# Altium footprint library Socket.PcbLib: 25 footprints (part 1 of 2)
Each footprint in its own frame and in the unit in brackets; x right, y up, seen from the top. Pads: shape width x height; smd on the part's side, far side on the other; paste and mask are expansions set on the pad; w line width, h text height; cw(c..) or ccw(c..) is an arc to the next point about the centre after c.
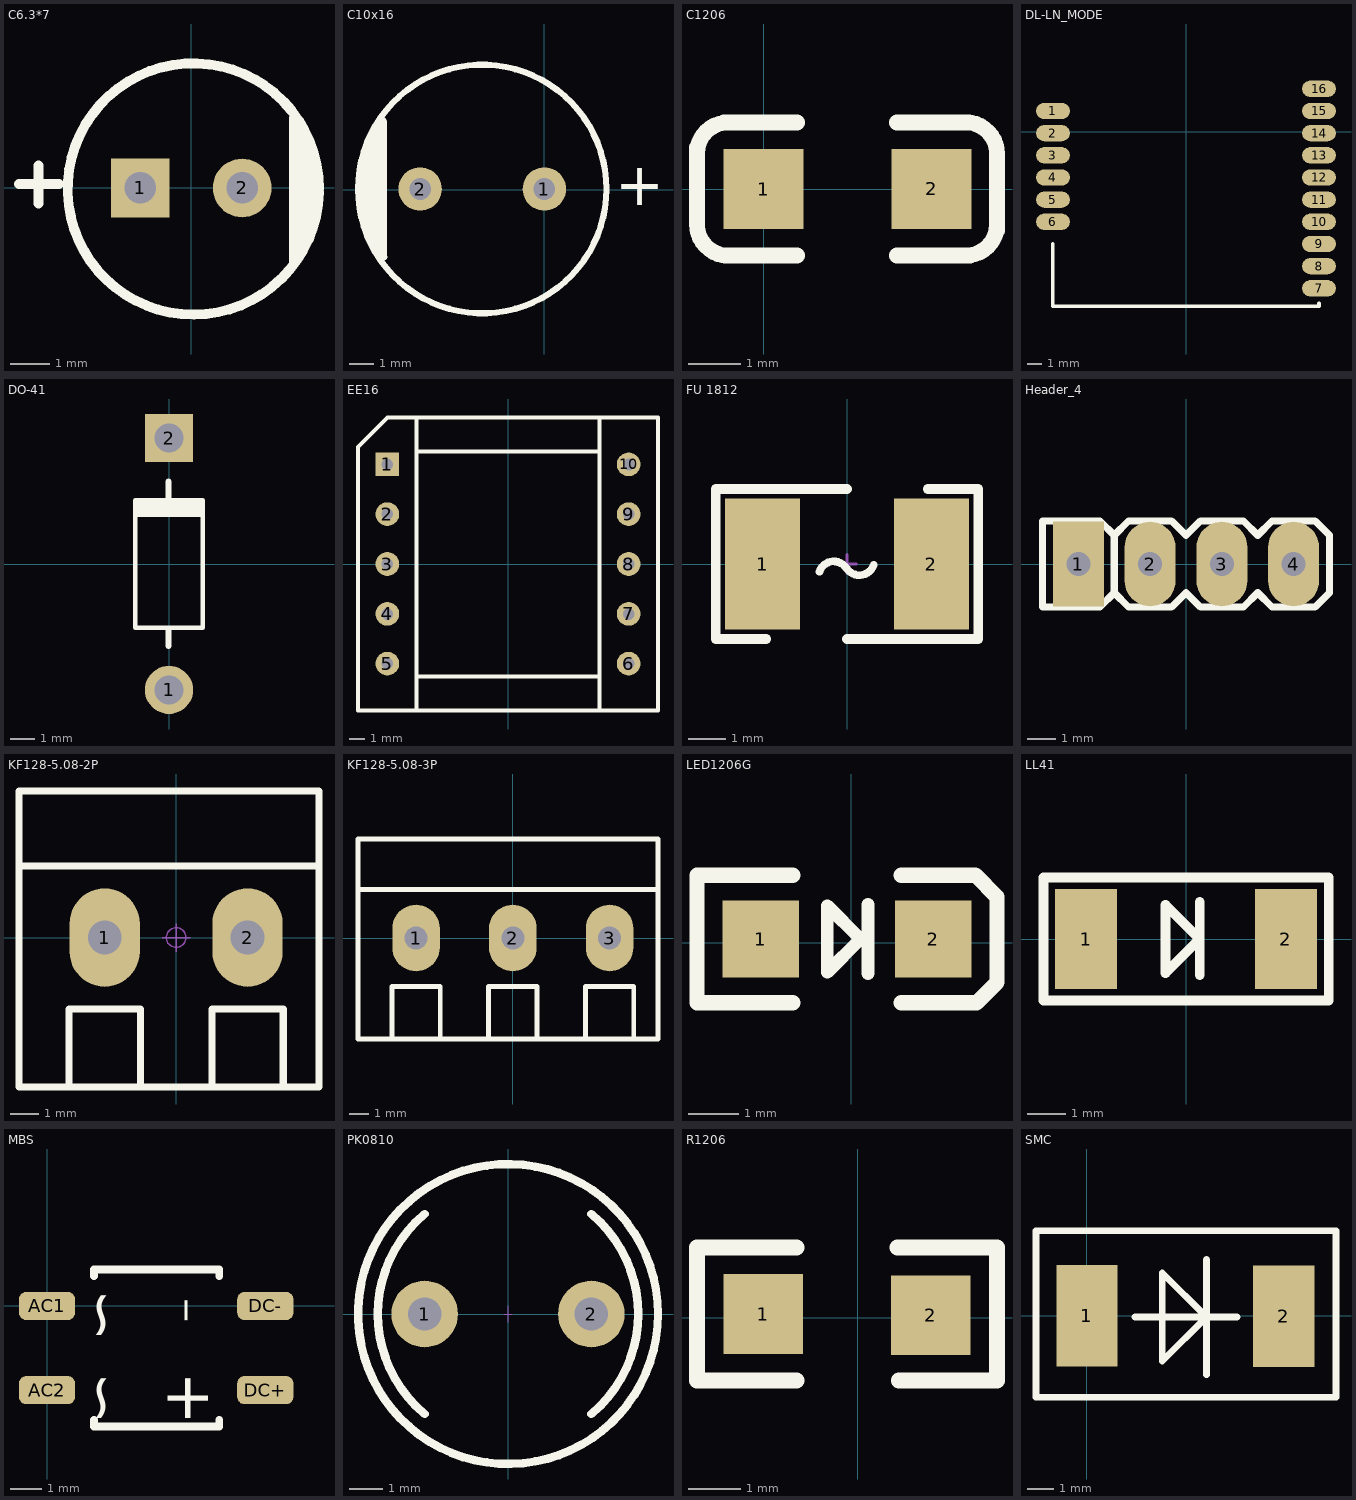
[diagram p0: the footprints below, top view; thin cyan lines are the x and y axes]

## C6.3*7 [mm]
pads (2):
  rect 1.5x1.5 hole 0.8: 1(-1.3,0)
  round 1.5 hole 0.8: 2(1.3,0)
Top Overlay:
  lines w0.254: -4.4,0.1 -3.384,0.1 ; -3.9,-0.4 -3.9,0.567 ; 3.261,-0.116 cw(c0.052,-0.028) 3.262,-0.025
  lines w0.3: 2.642,-1.88 2.642,1.778
  lines w0.5: 2.896,-1.245 2.896,1.168
3D body "6_3x7x2_5mm.STEP": height 7.53, standoff -3.01, extent -3.15,-3.201 3.201,3.15

## C10x16 [mil] "RB.2/.4"
pads (2):
  round 70 hole 35: 1(0,1) 2(-200,1)
Top Overlay:
  circle w10: c-100,1 r200
  rectangle: -270,-110 -253.5,111.28
  rectangle: -295,-60 -265,55
  rectangle: -285,-80 -260,90
  lines w11.81: -260,111.28 ccw(c-105.35,2.7) -258.14,-108.48
  text "+" at 114,-25 h68.9
3D body "Cap 10x16.STEP": height 708.66, standoff -669.29, extent -296.85,-197.7 96.85,196

## C1206 [mil] "3216/A型"
pads (2):
  rect 60x60 smd: 1(0,0) 2(126,0)
Top Overlay:
  lines w11.81: -50,-26 ccw(c-26.5,-26.5) -27,-50 ; -50,27 cw(c-26.5,26.5) -26,50 ; 151,-50 ccw(c151.5,-26.5) 175,-27 ; 152,50 cw(c151.5,26.5) 175,26
  lines w12: -50,-27 -50,31 ; -29,-50 25,-50 ; -28,50 25,50 ; 100,-50 153,-50 ; 100,50 154,50 ; 175,-31 175,27
3D body "Capacitor 1206 SMD1.step": height 39.45, standoff 0, extent 0.01,-31.49 126,31.5

## DL-LN_MODE [mm]
pads (16):
  oval 2.3x1.1 smd: 1(-9,1.4) 2(-9,-0.1) 3(-9,-1.6) 4(-9,-3.1) 5(-9,-4.6) 6(-9,-6.1) 7(9,-10.6) 8(9,-9.1) 9(9,-7.6) 10(9,-6.1) 11(9,-4.6) 12(9,-3.1) 13(9,-1.6) 14(9,-0.1) 15(9,1.4) 16(9,2.9)
Top Overlay:
  lines w0.254: -9.017,-7.595 -9.017,-11.811 8.992,-11.811 8.992,-11.608
3D body: height 1, standoff 0, extent -9.017,-11.811 9.017,11.684
3D body: height 0.25, standoff 0, extent 4.521,8.306 4.521,8.306
3D body: height 0.25, standoff 0, extent 4.521,8.306 4.521,8.306

## DO-41 [mm]
pads (2):
  round 2 hole 1.2: 1(0,-5.23)
  rect 2x2 hole 1.2: 2(0,5.23)
Top Overlay:
  region: 1.4,1.95 1.4,2.75 -1.4,2.75 -1.4,1.95
  lines w0.2: -1.4,2.65 -1.4,-2.65 1.4,-2.65 1.4,2.65
  lines w0.254: -0.025,-3.404 -0.025,-2.69 ; -0.025,2.466 -0.025,3.429
3D body "DO-41.STEP": height 3.3, standoff -2, extent -1.279,-5.599 1.321,5.461

## EE16 [mil]
pads (10):
  rect 60x60 hole 30: 1(-305.12,251.97)
  round 60 hole 30: 2(-305.12,125.98) 3(-305.12,0) 4(-305.12,-125.98) 5(-305.12,-251.97) 6(305.12,-251.97) 7(305.12,-125.98) 8(305.12,0) 9(305.12,125.98) 10(305.12,251.97)
Top Overlay:
  lines w10: -231.02,-369 -231.02,369 ; -231.02,284.02 230.02,284 ; -230,-284.8 231,-284.8 ; 231.02,-369 231.02,369 ; -379.21,-370.08 -379.21,295.79 -304.92,370.08 379.21,370.08 379.21,-370.08 -379.21,-370.08
3D body: height 10, standoff 0, extent 380.65,371.15 380.65,371.15
3D body: height 708.66, standoff 590.55, extent -289,-326 291,322.87
3D body: height 590.55, standoff 196.85, extent -228,-289 230,284
3D body: height 196.85, standoff 0, extent -382,-375 380.65,367.15
3D body: height 787.4, standoff 0, extent -128,-366.07 130,362.93

## FU 1812 [mm] "贴片保险丝"
pads (2):
  rect 2x3.5 smd: 1(-2.25,0) 2(2.25,0)
Top Overlay:
  lines w0.203: -0.735,-0.203 cw(c-0.356,-0.33) -0.024,-0.106 ; -0.001,-0.122 ccw(c0.33,0.102) 0.709,-0.026
  lines w0.254: -2.159,-2 -3.5,-2 -3.5,2 0,2 ; 0,-2 3.5,-2 3.5,2 2.159,2
Mechanical 15:
  lines w0.076: -0.254,0 0.254,0 ; 0,-0.254 0,0.254
3D body "FU 01812.STEP": height 0.87, standoff 0, extent -2.3,-1.61 2.3,1.61

## Header_4 [mm] "插针"
height 5
pads (4):
  rect 1.8x3 hole 0.85: 1(-3.81,0)
  oval 1.8x3 hole 0.85: 2(-1.27,0) 3(1.27,0) 4(3.81,0)
Top Overlay:
  lines w0.254: -2.54,-1.016 -2.032,-1.524 -0.508,-1.524 0,-1.016 0.508,-1.524 2.032,-1.524 2.54,-1.016 3.048,-1.524 4.572,-1.524 5.08,-1.016 5.08,1.016 4.572,1.524 3.048,1.524 2.54,1.016 2.032,1.524 0.508,1.524 0,1.016 -0.508,1.524 -2.032,1.524 -2.54,1.016 ; -2.54,-1.016 -3.048,-1.524 -5.08,-1.524 -5.08,1.524 -3.048,1.524 -2.54,1.016 ; -2.54,-1.016 -2.54,1.016
3D body "1001-4.STEP": height 8.54, standoff -3, extent -5.08,-1.27 5.08,1.27

## KF128-5.08-2P [mm] "螺钉式接线端子，脚距5.08mm"
pads (2):
  oval 2.5x3.5 hole 1.2: 1(-2.54,0) 2(2.54,0)
Top Overlay:
  lines w0.254: -5.588,2.54 5.08,2.54 ; -3.81,-5.309 -3.81,-2.54 -1.27,-2.54 -1.27,-5.309 ; 1.27,-5.309 1.27,-2.54 3.81,-2.54 3.81,-5.309 ; -5.588,-5.309 -5.588,5.207 5.08,5.207 5.08,-5.309 -5.588,-5.309
Mechanical 15:
  circle w0.05: c0,0 r0.35
  lines w0.05: -0.5,0 0.5,0 ; 0,-0.5 0,0.5
3D body "KF128-5.08.STEP": height 14.15, standoff -3.95, extent -5.58,-5.3 0,5.2
3D body "KF128-5.08.STEP": height 14.15, standoff -3.95, extent -0.5,-5.3 5.08,5.2

## KF128-5.08-3P [mm] "螺钉式接线端子，脚距5.08mm"
pads (3):
  oval 2.5x3.5 hole 1.2: 1(-5.08,0) 2(0,0) 3(5.08,0)
Top Overlay:
  lines w0.254: -8.128,2.54 7.62,2.54 ; -6.35,-5.309 -6.35,-2.54 -3.81,-2.54 -3.81,-5.309 ; -1.27,-5.309 -1.27,-2.54 1.27,-2.54 1.27,-5.309 ; 3.81,-5.309 3.81,-2.54 6.35,-2.54 6.35,-5.309 ; -8.128,-5.309 -8.128,5.207 7.62,5.207 7.62,-5.309 -8.128,-5.309
Mechanical 15:
  circle w0.05: c0,0 r0.35
  lines w0.05: -0.5,0 0.5,0 ; 0,-0.5 0,0.5
3D body "KF128-5.08.STEP": height 14.15, standoff -3.95, extent 2.04,-5.3 7.62,5.2
3D body "KF128-5.08.STEP": height 14.15, standoff -3.95, extent -8.12,-5.3 -2.54,5.2
3D body "KF128-5.08.STEP": height 14.15, standoff -3.95, extent -3.04,-5.3 2.54,5.2

## LED1206G [mil] "1/4W"
pads (2):
  rect 60x60 smd: 1(-71,3) 2(64,3)
Top Overlay:
  lines w10: 13,-24 13,30 ; -19,-23 7,3 -19,29 -19,-12 -19,-23
  lines w12: -46,-47 -121,-47 -121,53 -46,53 ; 39,-47 98,-47 114,-31 114,36 97,53 39,53
3D body "LED 1206 BLUE.step": height 43.31, standoff 0, extent -65.99,-28.49 59.99,34.51

## LL41 [mm] "DO-213AB/LL35"
pads (2):
  rect 1.6x2.6 smd: 1(-2.6,0) 2(2.6,0)
Top Overlay:
  lines w0.254: 0.356,-0.94 0.356,0.965 ; -3.708,-1.6 -3.708,1.6 3.709,1.6 3.709,-1.6 -3.708,-1.6 ; -0.533,-0.889 -0.533,0.889 0.356,0 -0.533,-0.889
3D body "MELF DO-213AB.step": height 2.67, standoff 0, extent -2.6,-1.332 2.6,1.332

## MBS [mm]
pads (4):
  rrect50% 1.8x0.9 smd: AC1(0,0) AC2(0,-2.7) DC+(7,-2.7) DC-(7,0)
Top Overlay:
  lines w0.254: 1.508,-3.661 1.508,-3.865 5.522,-3.865 5.522,-3.661 ; 1.508,0.961 1.508,1.165 5.522,1.165 5.522,0.961
  text "+" at 5.674,-2.112 h2.54
  text "-" at 5.674,0.301 h3.05
  text "~" at 2.88,-2.112 h2.54
  text "~" at 2.88,0.555 h2.54

## PK0810 [mm] "5*9*12mm(脚距，直径，高）"
pads (2):
  round 2 hole 1: 1(-2.5,0) 2(2.5,0)
Top Overlay:
  circle w0.254: c0,0 r4.5
  lines w0.254: -2.5,-3 cw(c0,0) -2.5,3 ; 2.5,-3 ccw(c0,0) 2.5,3
Mechanical 15:
  lines w0.01: -0.127,0 0.127,0 ; 0,-0.254 0,0.254
3D body "PK0810.STEP": height 12.02, standoff -2.78, extent -4.5,-4.5 4.5,4.5

## R1206 [mil] "1/4W"
pads (2):
  rect 60x60 smd: 1(-71,3) 2(55,2)
Top Overlay:
  lines w12: -46,-47 -121,-47 -121,53 -46,53 ; 30,53 105,53 105,-47 31,-47
3D body "R1206.STEP": height 23.62, standoff 0, extent -70.99,-29.49 55,33.5

## SMC [mil] "DO-214AB(2114)"
pads (2):
  rect 90x149.84 smd: 1(0,0)
  rect 90x149.63 smd: 2(290,-1)
Top Overlay:
  lines w10: 71,-2 221,-2 ; 176,-87 176,83 ; -75,-120 367,-120 367,125 -75,125 -75,-120 ; 111,-67 111,63 176,-2 111,-67
3D body "DO-214AB.STEP": height 106.3, standoff 0, extent -14.84,-117.09 304.84,127